# Altium schematic symbol library ORing.SchLib: 7 symbols
Pins are listed as number, name and electrical type; pins without a type are passive.

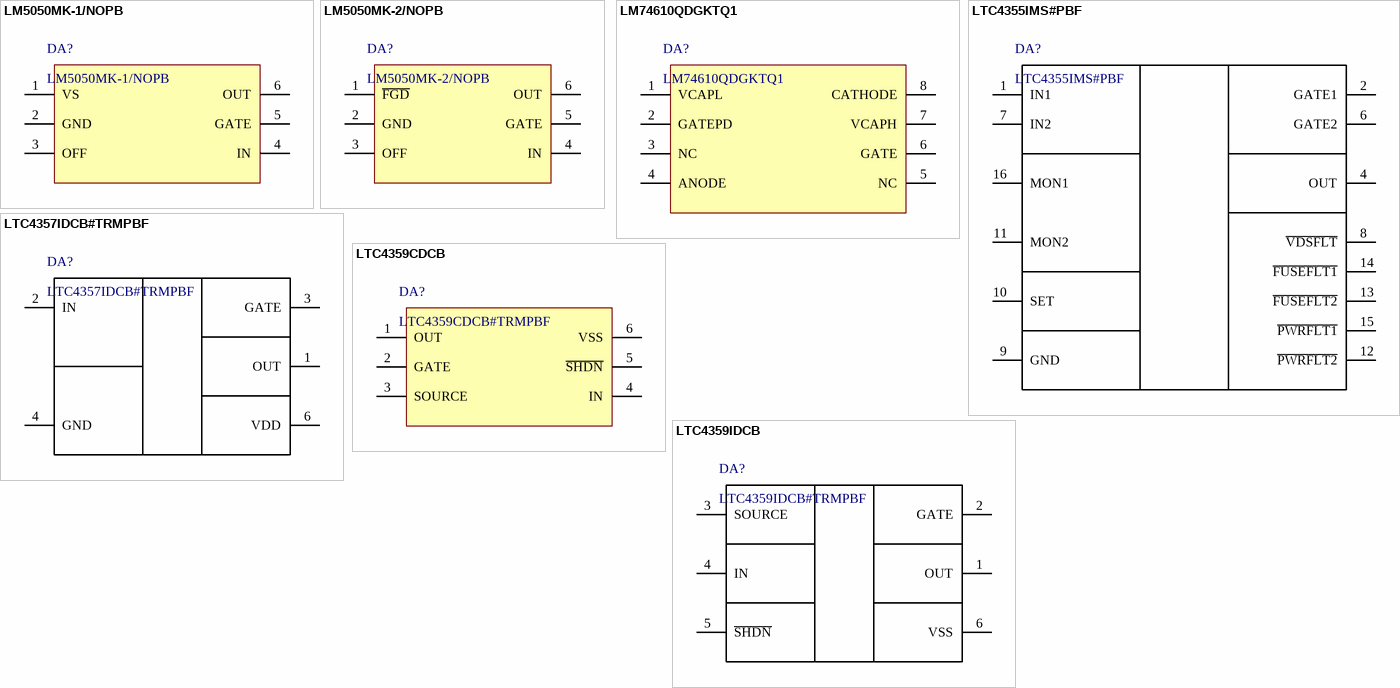
[diagram p0: symbols LM5050MK-1/NOPB to LTC4359IDCB]

## LM5050MK-1/NOPB
designator DA?
High-Side OR-ing FET Controller; PartNo: LM5050MK-1/NOPB; Supplier 1: Digi-Key; Supplier Part Number 1: LM5050MK-1/NOPBCT-ND
pins: 1 VS, 2 GND, 3 OFF, 4 IN, 5 GATE, 6 OUT

## LM5050MK-2/NOPB
designator DA?
High Side OR-ing FET Controller; PartNo: LM5050MK-2/NOPB; Supplier 1: Digi-Key; Supplier Part Number 1: LM5050MK-2/NOPBCT-ND
pins: 1 ~{FGD}, 2 GND, 3 OFF, 4 IN, 5 GATE, 6 OUT

## LM74610QDGKTQ1
designator DA?
Zero IQ Reverse Polarity Protection Smart Diode Controller; PartNo: LM74610QDGKTQ1; Supplier 1: Digi-Key; Supplier Part Number 1: 296-43005-1-ND
pins: 1 VCAPL, 2 GATEPD, 3 NC, 4 ANODE, 5 NC, 6 GATE, 7 VCAPH, 8 CATHODE

## LTC4355IMS#PBF
designator DA?
Positive High Voltage Ideal Diode-OR with Input Supply and Fuse Monitors; PartNo: LTC4355IMS#PBF; Supplier 1: Digi-Key; Supplier Part Number 1: LTC4355IMS#PBF-ND
footprint TSSOP50P490X110-16N (TSSOP, 16-Leads, Body 4.04x3.00mm, Pitch 0.50mm, IPC Medium Density)
pins: 1 IN1, 2 GATE1, 4 OUT, 6 GATE2, 7 IN2, 8 ~{VDSFLT}, 9 GND, 10 SET, 11 MON2, 12 ~{PWRFLT2}, 13 ~{FUSEFLT2}, 14 ~{FUSEFLT1}, 15 ~{PWRFLT1}, 16 MON1

## LTC4357IDCB#TRMPBF
designator DA?
Positive High Voltage Ideal Diode Controller; PartNo: LTC4357IDCB#TRMPBF; Supplier 1: Digi-Key; Supplier Part Number 1: LTC4357IDCB#TRMPBFCT-ND
footprint QFN50P200X300X75_HS-7N (QFN, 6-Leads, Body 2.00x3.00mm, Pitch 0.50mm, Thermal Pad 1.35x1.65mm, IPC Medium Density)
pins: 1 OUT, 2 IN, 3 GATE, 4 GND, 6 VDD

## LTC4359CDCB
designator DA?, comment LTC4359CDCB#TRMPBF
Ideal Diode Controller with Reverse Input Protection; Supplier 1: Digi-Key; Supplier Part Number 1: LTC4359CDCB#TRMPBFCT-ND; PartNo: LTC4359CDCB#TRMPBF
footprint QFN50P200X300X75_HS-7N (QFN, 6-Leads, Body 2.00x3.00mm, Pitch 0.50mm, Thermal Pad 1.35x1.65mm, IPC Medium Density)
pins: 1 OUT, 2 GATE, 3 SOURCE, 4 IN, 5 ~{SHDN}, 6 VSS

## LTC4359IDCB
designator DA?, comment LTC4359IDCB#TRMPBF
Ideal Diode Controller with Reverse Input Protection; Supplier 1: *; Supplier Part Number 1: *; PartNo: LTC4359IDCB#TRMPBF
footprint QFN50P200X300X75_HS-7N (QFN, 6-Leads, Body 2.00x3.00mm, Pitch 0.50mm, Thermal Pad 1.35x1.65mm, IPC Medium Density)
pins: 1 OUT, 2 GATE, 3 SOURCE, 4 IN, 5 ~{SHDN}, 6 VSS